# Altium footprint library 15_to_28_Pin.PcbLib: 44 footprints (part 2 of 3)
Each footprint in its own frame and in the unit in brackets; x right, y up, seen from the top. Pads: shape width x height; smd on the part's side, far side on the other; paste and mask are expansions set on the pad; w line width, h text height; cw(c..) or ccw(c..) is an arc to the next point about the centre after c.
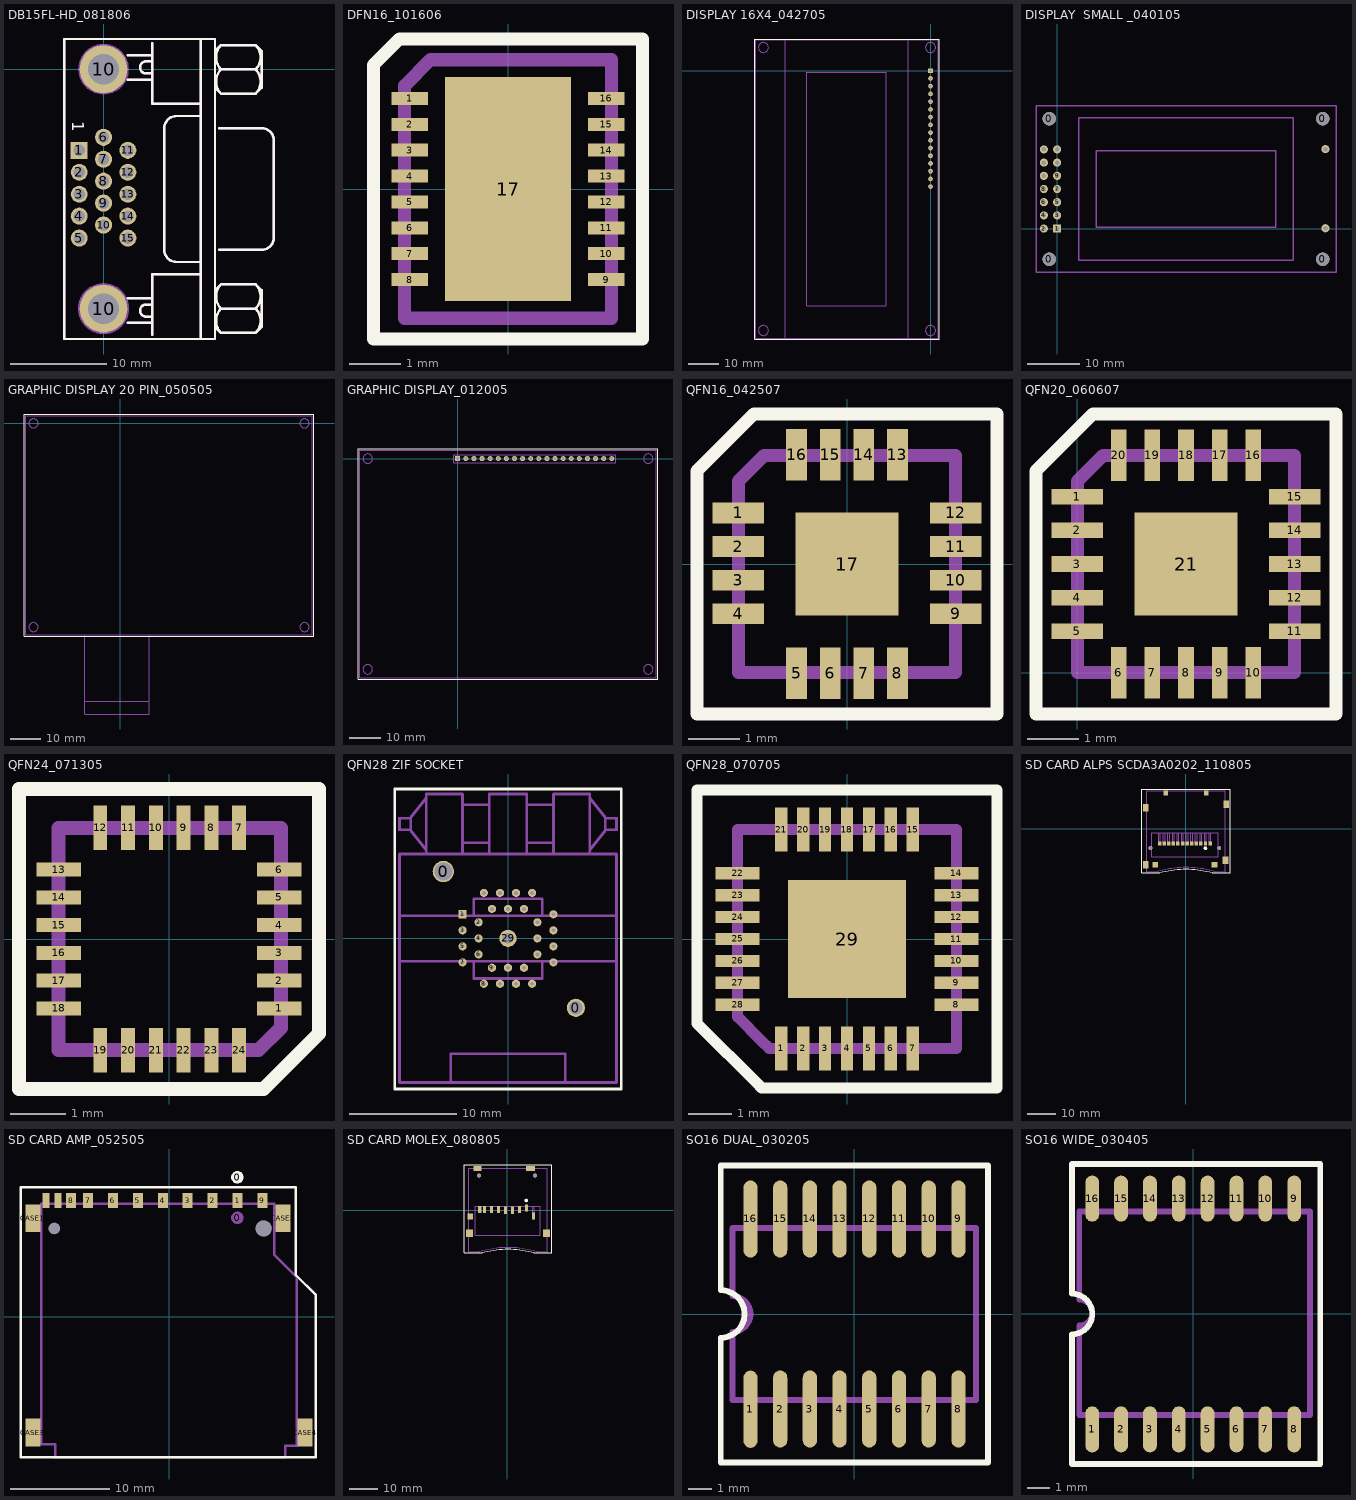
[diagram p1: the footprints below, top view; thin cyan lines are the x and y axes]

## DB15FL-HD_081806 [mil] "TH"
height 490
pads (17):
  rect 70x70 hole 47: 1(-100,-333.5)
  round 70 hole 47: 2(-100,-423.7) 3(-100,-513.9) 4(-100,-604.1) 5(-100,-694.3) 6(0,-280) 7(0,-370.2) 8(0,-460.4) 9(0,-550.6) 10(0,-640.8) 11(100,-333.5) 12(100,-423.7) 13(100,-513.9) 14(100,-604.1) 15(100,-694.3)
  round 196.67 hole 126: 10(0,-984.17) 10(0,0)
Top Overlay:
  lines w10: 100,-1042.5 200,-1042.5 ; 100,-942.5 200,-942.5 ; 100,-42.5 200,-42.5 ; 100,57.5 200,57.5 ; 200,-1092.5 200,-842.5 400,-842.5 ; 200,-1017.5 175,-1017.5 cw(c175,-992.5) 175,-967.5 200,-967.5 ; 200,-17.5 175,-17.5 cw(c175,7.5) 175,32.5 200,32.5 ; 200,107.5 200,-142.5 400,-142.5 ; 400,-1109.17 400,124.17 ; 400,-792.5 300,-792.5 cw(c300,-742.5) 250,-742.5 250,-242.5 cw(c300,-242.5) 300,-192.5 400,-192.5 ; 458.33,-1059.17 483.33,-1084.17 625,-1084.17 650,-1059.17 650,-909.17 625,-884.17 483.33,-884.17 458.33,-909.17 ; 458.33,-75.83 483.33,-100.83 625,-100.83 650,-75.83 650,74.17 625,99.17 483.33,99.17 458.33,74.17 ; 475,-742.5 650,-742.5 ccw(c650,-692.5) 700,-692.5 700,-292.5 ccw(c650,-292.5) 650,-242.5 475,-242.5 ; 483.25,-1084.25 cw(c533.33,-1034.17) 483.25,-984.08 ; 483.25,-984.25 cw(c533.33,-934.17) 483.25,-884.08 ; 483.25,-100.92 cw(c533.33,-50.83) 483.25,-0.75 ; 483.25,-0.92 cw(c533.33,49.17) 483.25,99.25 ; 483.33,-984.17 625,-984.17 ; 483.33,-0.83 625,-0.83 ; 625.09,-1084.25 ccw(c575,-1034.17) 625.09,-984.08 ; 625.09,-984.25 ccw(c575,-934.17) 625.09,-884.08 ; 625.09,-100.92 ccw(c575,-50.83) 625.09,-0.75 ; 625.09,-0.92 ccw(c575,49.17) 625.09,99.25 ; -161.67,-1109.17 -161.67,124.17 458.33,124.17 458.33,-1109.17 -161.67,-1109.17
  text "1" at -129.33,-214.57 h50
Assembly Outline:
  circle w10: c0,0 r99.15
  circle w10: c0,-984.17 r100.14
  lines w9.65: 458.33,124.17 -161.67,124.17 -161.67,-215.83 -161.67,-1109.17 ; -161.67,-1109.17 -161.67,-1109.17 ; -161.67,-1109.17 -161.67,-1109.17
  lines w10: -161.67,124.17 -161.67,-1109.17 148.33,-1109.17 458.33,-1109.17 458.33,124.17 -116.67,124.17 ; 100,-1042.5 200,-1042.5 ; 100,-942.5 200,-942.5 ; 100,-42.5 200,-42.5 ; 100,57.5 200,57.5 ; 200,-1092.5 200,-842.5 400,-842.5 ; 200,-1017.5 175,-1017.5 cw(c175,-992.5) 175,-967.5 200,-967.5 ; 200,-17.5 175,-17.5 cw(c175,7.5) 175,32.5 200,32.5 ; 200,107.5 200,-142.5 400,-142.5 ; 400,-1109.17 400,124.17 ; 400,-792.5 300,-792.5 cw(c300,-742.5) 250,-742.5 250,-242.5 cw(c300,-242.5) 300,-192.5 400,-192.5 ; 458.33,-1059.17 483.33,-1084.17 625,-1084.17 650,-1059.17 650,-909.17 625,-884.17 483.33,-884.17 458.33,-909.17 ; 458.33,-75.83 483.33,-100.83 625,-100.83 650,-75.83 650,74.17 625,99.17 483.33,99.17 458.33,74.17 ; 475,-742.5 650,-742.5 ccw(c650,-692.5) 700,-692.5 700,-292.5 ccw(c650,-292.5) 650,-242.5 475,-242.5 ; 483.25,-1084.25 cw(c533.33,-1034.17) 483.25,-984.08 ; 483.25,-984.25 cw(c533.33,-934.17) 483.25,-884.08 ; 483.25,-100.92 cw(c533.33,-50.83) 483.25,-0.75 ; 483.25,-0.92 cw(c533.33,49.17) 483.25,99.25 ; 483.33,-984.17 625,-984.17 ; 483.33,-0.83 625,-0.83 ; 625.09,-1084.25 ccw(c575,-1034.17) 625.09,-984.08 ; 625.09,-984.25 ccw(c575,-934.17) 625.09,-884.08 ; 625.09,-100.92 ccw(c575,-50.83) 625.09,-0.75 ; 625.09,-0.92 ccw(c575,49.17) 625.09,99.25
Assembly Designator:
  text ".Designator" at 343,-399.17 h40
Assembly Comment:
  text ".Comment" at 272,-245.17 h40

## DFN16_101606 [mm] "SM"
height 0.75
pads (17):
  rect 0.7x0.25 smd mask+0.038: 1(-1.9,1.75) 2(-1.9,1.25) 3(-1.9,0.75) 4(-1.9,0.25) 5(-1.9,-0.25) 6(-1.9,-0.75) 7(-1.9,-1.25) 8(-1.9,-1.75) 9(1.9,-1.75) 10(1.9,-1.25) 11(1.9,-0.75) 12(1.9,-0.25) 13(1.9,0.25) 14(1.9,0.75) 15(1.9,1.25) 16(1.9,1.75)
  rect 2.44x4.34 smd: 17(0,0)
Top Overlay:
  lines w0.254: -2.6,-2.9 0,-2.9 2.6,-2.9 2.6,0 2.6,2.9 0,2.9 -2.1,2.9 -2.6,2.4 -2.6,0 -2.6,-2.9
Assembly Outline:
  lines w0.254: -2,-2.5 -2,2 -1.5,2.5 2,2.5 2,0 2,-2.5 -2,-2.5
Assembly Designator:
  text ".Designator" at -0.8,-0.4 h1.02
Assembly Comment:
  text ".Comment" at -3,-4.2 h1.02

## DISPLAY 16X4_042705 [mil] "TH"
height 550
pads (16):
  rect 60x60 hole 30: 1(0,0)
  round 60 hole 30: 2(0,-100) 3(0,-200) 4(0,-300) 5(0,-400) 6(0,-500) 7(0,-600) 8(0,-700) 9(0,-800) 10(0,-900) 11(0,-1000) 12(0,-1100) 13(0,-1200) 14(0,-1300) 15(0,-1400) 16(0,-1500)
Top Overlay:
  lines w8: -2270,-3470 110,-3470 110,410 -2270,410 -2270,-3470
Assembly Outline:
  circle w10: c-2160,300 r65.19
  circle w10: c0,300 r65.19
  circle w10: c0,-3360 r65.19
  circle w10: c-2160,-3360 r65.19
  lines w8: -2260,-3360 -2260,-3460 ; -2160,400 -2260,400 ; -1880,-3460 -1880,400 -2260,400 ; -290,400 -290,-3460 100,-3460 ; 0,-3460 100,-3460 ; 100,300 100,400 ; -2260,-3460 100,-3460 ; -2260,-3460 -2260,400 ; -2260,400 100,400 ; 100,-3460 100,400 ; -1600,-3040 -570,-3040 -570,-20 -1600,-20 -1600,-3040

## DISPLAY  SMALL _040105 [mil] "DISPLAY TH"
height 530
pads (20):
  round 100 hole 100: 0(-60,-232.5) 0(-60,832.5) 0(2015,-232.5) 0(2015,832.5)
  rect 62x62 hole 35: 1(0,0)
  round 62 hole 35: 2(-100,0) 3(0,100) 4(-100,100) 5(0,200) 6(-100,200) 7(0,300) 8(-100,300) 9(0,400) 10(-100,400) 11(0,500) 12(-100,500) 13(0,600) 14(-100,600) 15(2035,602.5) 16(2035,2.5)
Assembly Outline:
  lines w10: -160,300 -160,932.5 ; -60,932.5 -160,932.5 ; 977.5,-332.5 -160,-332.5 ; 2115,7.5 2115,-332.5 ; 2115,597.5 2115,932.5 ; -160,-332.5 -160,592.5 -160,932.5 ; -160,-332.5 2115,-332.5 ; -160,932.5 2115,932.5 ; 2115,-332.5 2115,932.5 ; 162.5,-240 162.5,300 162.5,840 1792.5,840 1792.5,300 1792.5,-240 162.5,-240 ; 297.5,10 297.5,300 297.5,590 1657.5,590 1657.5,300 1657.5,10 297.5,10
Assembly Designator:
  text ".Designator" at 816,258.5 h40
Assembly Comment:
  text ".Comment" at 866,184.5 h40

## GRAPHIC DISPLAY 20 PIN_050505 [mil] "SMT"
height 375
Top Overlay:
  lines w10: -1230,-2720 2470,-2720 2470,120 -1155,120 -1230,120 -1230,-2720
Assembly Outline:
  circle w10: c2350,0 r58.66
  circle w10: c2350,-2600 r58.66
  circle w10: c-1110,-2600 r58.66
  circle w10: c-1110,0 r58.66
  lines w10: 370,-3550 -455,-3550 -455,-3710 ; 370,-2700 370,-3710 -455,-3710 ; -1210,100 -1210,-2505 -1210,-2700 -1110,-2700 ; -1210,100 -1110,100 ; -1210,100 -1110,100 ; -1110,-2700 -455,-2700 -455,-3710 ; -1110,-2700 2450,-2700 2450,-2600 2450,100 ; -1110,100 2350,100 ; -1110,100 2350,100 ; 2350,100 2450,100 ; 2350,100 2450,100

## GRAPHIC DISPLAY_012005 [mil] "TH"
pads (20):
  rect 62x62 hole 35: 1(0,0)
  round 62 hole 35: 2(100,0) 3(200,0) 4(300,0) 5(400,0) 6(500,0) 7(600,0) 8(700,0) 9(800,0) 10(900,0) 11(1000,0) 12(1100,0) 13(1200,0) 14(1300,0) 15(1400,0) 16(1500,0) 17(1600,0) 18(1700,0) 19(1800,0) 20(1900,0)
Top Overlay:
  lines w10: -1230,-2720 2470,-2720 2470,120 -1155,120 -1230,120 -1230,-2720
Assembly Outline:
  circle w10: c2350,0 r58.66
  circle w10: c2350,-2600 r58.66
  circle w10: c-1110,-2600 r58.66
  circle w10: c-1110,0 r58.66
  lines w8: -50,-50 -50,50 25,50 1950,50 1950,-50 -50,-50
  lines w10: -1210,100 -1210,-2505 -1210,-2700 -1110,-2700 2450,-2700 2450,-2600 2450,100 ; -1210,100 -1110,100 ; -1210,100 -1110,100 ; -1110,100 2350,100 ; -1110,100 2350,100 ; 2350,100 2450,100 ; 2350,100 2450,100
Assembly Designator:
  text ".Designator" at 845,-185 h40
Assembly Comment:
  text ".Comment" at 770,-125 h40

## QFN16_042507 [mm] "SMT"
pads (17):
  rect 1x0.4 smd mask+0.025: 1(-2.1,0.988) 2(-2.1,0.338) 3(-2.1,-0.312) 4(-2.1,-0.962) 9(2.1,-0.962) 10(2.1,-0.312) 11(2.1,0.338) 12(2.1,0.988)
  rect 0.4x1 smd mask+0.025: 5(-0.975,-2.112) 6(-0.325,-2.112) 7(0.325,-2.112) 8(0.975,-2.112) 13(0.975,2.113) 14(0.325,2.113) 15(-0.325,2.113) 16(-0.975,2.113)
  rect 2x2 smd: 17(0,0)
Top Overlay:
  lines w0.254: -2.9,-2.9 0,-2.9 2.9,-2.9 2.9,0 2.9,2.9 0,2.9 -1.8,2.9 -2.9,1.8 -2.9,0 -2.9,-2.9
Assembly Outline:
  lines w0.254: -2.1,-2.1 0,-2.1 2.1,-2.1 2.1,2.1 -1.6,2.1 -2.1,1.6 -2.1,-2.1
Assembly Designator:
  text ".Designator" at -0.95,-0.625 h1.02
Assembly Comment:
  text ".Comment" at -2,-4.225 h1.02

## QFN20_060607 [mm] "SMT"
pads (21):
  rect 1x0.3 smd mask+0.025: 1(0,3.4) 2(0,2.75) 3(0,2.1) 4(0,1.45) 5(0,0.8) 11(4.2,0.8) 12(4.2,1.45) 13(4.2,2.1) 14(4.2,2.75) 15(4.2,3.4)
  rect 0.3x1 smd mask+0.025: 6(0.8,0) 7(1.45,0) 8(2.1,0) 9(2.75,0) 10(3.4,0) 16(3.4,4.2) 17(2.75,4.2) 18(2.1,4.2) 19(1.45,4.2) 20(0.8,4.2)
  rect 2x2 smd: 21(2.1,2.1)
Top Overlay:
  lines w0.254: -0.8,-0.8 2.1,-0.8 5,-0.8 5,2.1 5,5 2.1,5 0.3,5 -0.8,3.9 -0.8,2.1 -0.8,-0.8
Assembly Outline:
  lines w0.203: 0,0 2.1,0
  lines w0.254: 0,0 2.1,0 4.2,0 4.2,4.2 0.5,4.2 0,3.7 0,0
Assembly Designator:
  text ".Designator" at 1.15,1.55 h1.02
Assembly Comment:
  text ".Comment" at -0.525,-2.125 h1.02

## QFN24_071305 [mm] "SMT"
height 0.75
pads (24):
  rect 0.8x0.25 smd mask+0.038: 1(1.988,-1.25) 2(1.988,-0.75) 3(1.988,-0.25) 4(1.988,0.25) 5(1.988,0.75) 6(1.988,1.25) 13(-1.987,1.25) 14(-1.987,0.75) 15(-1.987,0.25) 16(-1.987,-0.25) 17(-1.987,-0.75) 18(-1.987,-1.25)
  rect 0.25x0.8 smd mask+0.038: 7(1.263,2) 8(0.763,2) 9(0.263,2) 10(-0.237,2) 11(-0.737,2) 12(-1.237,2) 19(-1.237,-2) 20(-0.737,-2) 21(-0.237,-2) 22(0.263,-2) 23(0.763,-2) 24(1.263,-2)
Top Overlay:
  lines w0.254: 2.7,0 2.7,2.7 ; 2.7,2.7 -2.7,2.7 -2.7,-2.7 1.7,-2.7 2.7,-1.7 2.7,2.7
Assembly Outline:
  lines w0.254: 0.013,2 -1.987,2 ; -1.987,2 -1.987,-2 1.613,-2 2.013,-1.6 2.013,2 -1.987,2
Assembly Designator:
  text ".Designator" at -1.05,-0.425 h1.02
Assembly Comment:
  text ".Comment" at -2.7,-3.7 h1.02

## QFN28 ZIF SOCKET [mil] "TH"
height 20669.29
pads (31):
  round 78.74 hole 66.93: 0(-238.19,246.06)
  round 66.93 hole 49.21: 0(250,-255.91)
  rect 30x30 hole 14 mask+1.5: 1(-167.32,88.58)
  round 30 hole 14 mask+1.5: 2(-108.27,59.06) 3(-167.32,29.53) 4(-108.27,0) 5(-167.32,-29.53) 6(-108.27,-59.05) 7(-167.32,-88.58) 8(-88.58,-167.32) 9(-59.06,-108.27) 10(-29.53,-167.32) 11(0,-108.27) 12(29.53,-167.32) 13(59.06,-108.27) 14(88.58,-167.32) 15(167.32,-88.58) 16(108.27,-59.05) 17(167.32,-29.53) 18(108.27,0) 19(167.32,29.53) 20(108.27,59.06) 21(167.32,88.58) 22(88.58,167.32) 23(59.06,108.27) 24(29.53,167.32) 25(0,108.27) 26(-29.53,167.32) 27(-59.06,108.27) 28(-88.58,167.32)
  round 62.99 hole 39.37: 29(0,0)
Top Overlay:
  lines w10: -417.32,-555.12 0,-555.12 417.32,-555.12 417.32,0 417.32,550.2 -417.32,550.2 -417.32,0 -417.32,-555.12
Assembly Outline:
  lines w10: -360.24,399.61 -301.18,324.8 ; -358.27,442.91 -358.27,399.61 -399.61,399.61 -399.61,442.91 -360.24,442.91 -301.18,517.72 -301.18,531.5 ; -301.18,442.91 -301.18,421.26 -301.18,531.5 ; -210.63,-531.5 -210.63,-425.2 0,-425.2 210.63,-425.2 210.63,-531.5 ; -167.32,352.36 -68.9,352.36 ; -68.9,492.13 -167.32,492.13 -167.32,531.5 ; 68.9,352.36 167.32,352.36 ; 68.9,492.13 167.32,492.13 167.32,531.5 ; 301.18,324.8 360.24,399.61 ; 301.18,442.91 301.18,421.26 301.18,531.5 ; 358.27,442.91 358.27,399.61 399.61,399.61 399.61,442.91 360.24,442.91 301.18,517.72 301.18,531.5 ; -301.18,311.02 -301.18,531.5 ; -301.18,311.02 -167.32,311.02 ; -301.18,311.02 -399.61,311.02 -399.61,0 -399.61,-531.5 0,-531.5 399.61,-531.5 399.61,0 399.61,311.02 301.18,311.02 ; -301.18,531.5 -167.32,531.5 ; -167.32,311.02 -167.32,531.5 ; -167.32,311.02 167.32,311.02 ; -125.98,82.68 -125.98,145.67 0,145.67 125.98,145.67 125.98,82.68 ; -125.98,82.68 0,82.68 125.98,82.68 ; -125.98,82.68 -399.61,82.68 -399.61,-84.65 399.61,-84.65 399.61,82.68 125.98,82.68 ; 167.32,311.02 301.18,311.02 ; 167.32,311.02 167.32,531.5 ; 167.32,531.5 301.18,531.5 ; 301.18,311.02 301.18,531.5 ; -125.98,-147.64 -125.98,-84.65 0,-84.65 125.98,-84.65 125.98,-147.64 -125.98,-147.64 ; -68.9,311.02 -68.9,531.5 0,531.5 68.9,531.5 68.9,311.02 7.87,311.02 0,311.02 -7.87,311.02 -68.9,311.02
Assembly Designator:
  text ".Designator" at -34.45,-249.02 h40
Assembly Comment:
  text ".Comment" at -197.83,-318.9 h40

## QFN28_070705 [mm] "SMT"
height 0.889
pads (29):
  rect 0.28x1 smd mask+0.038: 1(-1.5,-2.5) 2(-1,-2.5) 3(-0.5,-2.5) 4(0,-2.5) 5(0.5,-2.5) 6(1,-2.5) 7(1.5,-2.5) 15(1.5,2.5) 16(1,2.5) 17(0.5,2.5) 18(0,2.5) 19(-0.5,2.5) 20(-1,2.5) 21(-1.5,2.5)
  rect 1x0.28 smd mask+0.038: 8(2.5,-1.5) 9(2.5,-1) 10(2.5,-0.5) 11(2.5,0) 12(2.5,0.5) 13(2.5,1) 14(2.5,1.5) 22(-2.5,1.5) 23(-2.5,1) 24(-2.5,0.5) 25(-2.5,0) 26(-2.5,-0.5) 27(-2.5,-1) 28(-2.5,-1.5)
  rect 2.7x2.7 smd paste-0.508 mask+0.038: 29(0,0)
Top Overlay:
  lines w0.254: -3.425,-1.925 -3.425,0 -3.425,3.4 -1.1,3.4 1.1,3.4 3.425,3.4 3.425,0 3.425,-3.4 1.1,-3.4 0,-3.4 -1.95,-3.4 -2,-3.35 -3.425,-1.925
Assembly Outline:
  lines w0.254: 0,2.5 -2.5,2.5 ; -2.5,2.5 2.5,2.5 2.5,-2.5 -1.775,-2.5 -1.95,-2.325 -2.5,-1.775 -2.5,2.5
Assembly Designator:
  text ".Designator" at -0.875,-0.35 h1.02
Assembly Comment:
  text ".Comment" at -2.6,-5 h1.02

## SD CARD ALPS SCDA3A0202_110805 [mm] "SMT"
height 2.9
pads (24):
  round 1.3 hole 1.3 unplated paste+0 mask+0.038: 0(-12.4,-6.7) 0(11.6,-6.7)
  round 1.27 on Top Overlay paste+0 mask+0.038: 0(6.775,-6.75)
  round 1.27 on Mech1 paste+0 mask+0.038: 0(6.775,-6.75)
  rect 1.2x1.4 smd paste+0 mask+0.038: 1(6.8,-5.1) 2(5.2,-5.1) 3(2,-5.1) 3(3.6,-5.1) 4(-1.2,-5.1) 4(0.4,-5.1) 5(-2.8,-5.1) 6(-4.4,-5.1) 7(-6,-5.1) 8(-7.6,-5.1) 9(8.4,-5.1) WP(-9.2,-5.1)
  rect 2x2 smd paste+0 mask+0.038: CASE1(-10.75,-12.5) CASE2(9.95,-12.5)
  rect 1.6x1.7 smd paste+0 mask+0.038: CASE3(7.05,12.5) CD(-7.05,12.5)
  rect 2x2.6 smd paste+0 mask+0.038: CASE4(-14,-12.5) CASE4(-14,7.3) CASE4(13.75,-10.95) CASE4(14,8.5)
Top Overlay:
  lines w0.254: -15.5,-15.372 -15.5,13.875 15.5,13.875 15.5,-15.372 15.225,-15.372 9.233,-15.372 ccw(c-0.45,-52.405) 0,-14.13 ccw(c0.45,-52.405) -9.233,-15.372 -15.5,-15.372
Assembly Outline:
  lines w0.254: -13.75,-12.7 -14.25,-12.7 -14.25,-12.2 -14.25,-11.7 -13.75,-11.7 ; -13.75,-12.2 -13.75,13.3 ; -13.75,-9.7 -13.75,13.3 ; -13.75,-5.8 -13.75,13.3 ; -13.75,-5.2 -13.75,13.3 ; -13.75,-1.4 -13.75,13.3 ; -13.75,6.95 -14.25,6.95 -14.25,7.45 -14.25,7.95 -13.75,7.95 ; -13.75,11.7 -13.75,13.3 ; -12,13.3 -13.75,13.3 ; -9.725,-1.4 -9.5,-1.4 -9.5,-5.1 -9.2,-5.1 -8.9,-5.1 -8.9,-1.4 ; -7.9,-1.4 -7.9,-5.1 -7.6,-5.1 -7.3,-5.1 -7.3,-1.4 ; -6.3,-1.4 -6.3,-5.1 -6,-5.1 -5.7,-5.1 -5.7,-1.4 ; -4.7,-1.4 -4.7,-5.1 -4.4,-5.1 -4.1,-5.1 -4.1,-1.4 ; -3.1,-1.4 -3.1,-5.1 -2.8,-5.1 -2.5,-5.1 -2.5,-1.4 ; -1.5,-1.4 -1.5,-5.1 -1.2,-5.1 -0.9,-5.1 -0.9,-1.4 ; 0.1,-1.4 0.1,-5.1 0.4,-5.1 0.7,-5.1 0.7,-1.4 ; 1.7,-1.4 1.7,-5.1 2,-5.1 2.3,-5.1 2.3,-1.4 ; 3.3,-1.4 3.3,-5.1 3.6,-5.1 3.9,-5.1 3.9,-1.4 ; 4.9,-1.4 4.9,-5.1 5.2,-5.1 5.5,-5.1 5.5,-1.4 ; 6.5,-1.4 6.5,-5.1 6.8,-5.1 7.1,-5.1 7.1,-1.4 ; 8.1,-1.4 8.1,-5.1 8.4,-5.1 8.7,-5.1 8.7,-1.4 ; 11.25,13.3 13.75,13.3 ; 13.75,-11.45 14.25,-11.45 14.25,-10.95 14.25,-10.45 13.75,-10.45 ; 13.75,-10.95 13.75,13.3 ; 13.75,8.3 14.25,8.3 14.25,8.8 14.25,9.3 13.75,9.3 ; 13.75,8.8 13.75,13.3 ; -13.75,13.3 -13.75,-4.4 -13.75,13.3 ; -13.75,13.3 -13.75,-14.9 -10.001,-14.9 cw(c0.425,-51.73) 0,-13.455 cw(c-0.425,-51.73) 10.001,-14.9 13.75,-14.9 13.75,13.3 ; -13.75,13.3 13.75,13.3 ; -12,-9.7 9.725,-9.7 11.25,-9.7 11.25,-3.5 11.25,-1.4 10.475,-1.4 -12,-1.4 -12,-9.7
Assembly Designator:
  text ".Designator" at -0.6,-0.15 h1.02
Assembly Comment:
  text ".Comment" at -0.55,1.325 h1.02

## SD CARD AMP_052505 [mm] "SMT"
height 3.175
pads (19):
  round 0.4 hole 1.143 unplated paste+0 mask+0.038: 0(-11.5,8.837)
  round 1.27 on Mech1 paste+0 mask+0.038: 0(6.858,9.906)
  round 1.27 on Top Overlay paste+0 mask+0.038: 0(6.858,13.97)
  round 0.4 hole 1.6 unplated paste+0 mask+0.038: 0(9.5,8.837)
  rect 1x1.5 smd paste+0 mask+0.038: 1(6.875,11.637) 2(4.375,11.637) 3(1.875,11.637) 4(-0.625,11.637) 5(-3.125,11.637) 6(-5.625,11.637) 7(-8.125,11.637) 8(-9.825,11.637) 9(9.375,11.637)
  rect 1.5x2.8 smd paste+0 mask+0.038: CASE1(-13.65,9.862) CASE2(11.45,9.862) CASE3(-13.65,-11.637) CASE4(13.65,-11.637)
  rect 0.7x1.5 smd paste+0 mask+0.038: CD(-11.125,11.637) WP(-12.325,11.637)
Top Overlay:
  lines w0.254: -14.859,-14.097 14.732,-14.097 14.732,2.159 12.7,4.191 12.7,12.954 -14.859,12.954 -14.859,-14.097
Assembly Outline:
  circle w0.254: c-11.506,8.839 r0.457
  circle w0.254: c9.5,8.839 r0.686
  rectangle: 9.144,11.303 9.652,12.065
  rectangle: 6.604,11.303 7.112,12.065
  rectangle: 4.115,11.303 4.623,12.065
  rectangle: 1.626,11.303 2.134,12.065
  rectangle: -0.864,11.303 -0.356,12.065
  rectangle: -3.378,11.303 -2.87,12.065
  rectangle: -5.867,11.303 -5.359,12.065
  rectangle: -8.382,11.303 -7.874,12.065
  rectangle: -10.084,11.303 -9.576,12.065
  rectangle: -11.379,11.303 -10.871,12.065
  rectangle: -12.573,11.303 -12.065,12.065
  lines w0.254: -12.827,-12.573 -13.843,-12.573 -13.843,-10.541 -12.827,-10.541 ; -12.827,8.89 -13.843,8.89 -13.843,10.922 -12.827,10.922 ; 10.541,8.89 11.557,8.89 11.557,10.922 10.541,10.922 ; 12.827,-12.573 13.843,-12.573 13.843,-10.541 12.827,-10.541 ; -12.827,-12.827 -11.43,-12.827 -11.43,-14.097 11.684,-14.097 11.684,-12.954 12.827,-12.954 12.827,3.937 10.541,6.223 10.541,11.303 -12.827,11.303 -12.827,-12.827
Assembly Designator:
  text ".Designator" at -2.032,-1.981 h1.02
Assembly Comment:
  text ".Comment" at -7.569,8.052 h1.02

## SD CARD MOLEX_080805 [mm] "SMT"
height 3.1
pads (18):
  round 1.36 hole 1.36 unplated paste+0 mask+0.038: 0(-10.025,12.375) 0(9.975,12.375)
  round 1.27 on Top Overlay paste+0 mask+0.038: 0(6.825,3.475)
  round 1.27 on Mech1 paste+0 mask+0.038: 0(6.825,3.475)
  rect 1.1x2.5 smd paste+0 mask+0.038: 1(6.85,0.8) 2(4.35,0.275) 3(1.85,0) 4(-0.65,0) 5(-3.15,0.275) 6(-5.65,0.275) 7(-8.15,0.275) 8(-9.775,0.275) 9(9.35,-2.125)
  rect 2.5x2.6 smd paste+0 mask+0.038: CASE1(-13.425,-8.225) CASE2(13.975,-8.225)
  rect 2.8x1.7 smd paste+0 mask+0.038: CASE3(-10.575,14.85)
  rect 3.3x1.7 smd paste+0 mask+0.038: CD(8.325,14.85)
  rect 1.95x2.3 smd paste+0 mask+0.038: WP(-13.15,-2.225)
Top Overlay:
  lines w0.254: -15.325,-15.218 -8.933,-15.218 cw(c0.75,-52.25) 0.3,-13.975 cw(c-0.15,-52.25) 9.533,-15.218 15.975,-15.218 15.975,16.3 14.775,16.3 0.325,16.3 -14.125,16.3 -15.325,16.3 -15.325,-15.218
Assembly Outline:
  lines w0.254: -13.7,-9.125 -14.225,-9.125 -14.225,-8.225 -14.225,-7.325 -13.7,-7.325 ; 0.3,15.05 14.3,15.05 ; 6.6,1.45 6.6,-0.125 ; 7.1,1.45 7.1,-0.125 ; 14.3,-9.125 14.775,-9.125 14.775,-8.225 14.775,-7.325 14.3,-7.325 ; -10.025,-0.65 -9.775,-0.65 ; -10.025,-0.65 -10.025,1.45 ; -10.025,-0.65 -10.025,1.45 ; -10.025,-0.65 -9.775,-0.65 ; -10.025,1.45 -9.525,1.45 ; -10.025,1.45 -9.525,1.45 ; -9.775,-0.65 -9.525,-0.65 ; -9.775,-0.65 -9.525,-0.65 ; -9.525,-0.65 -9.525,1.45 ; -9.525,-0.65 -9.525,1.45 ; 6.6,-0.125 6.85,-0.125 7.1,-0.125 ; 6.6,-0.125 7.1,-0.125 ; 14.3,15.05 14.3,-14.745 10.301,-14.745 ccw(c-0.125,-51.575) 0.3,-13.3 ccw(c0.725,-51.575) -9.701,-14.745 -13.7,-14.745 -13.7,1.45 -13.7,15.05 14.3,15.05 ; -11.4,-8.95 -11.4,1.45 11.8,1.45 11.8,-8.95 -11.4,-8.95 ; -8.4,-0.65 -8.4,1.45 -7.9,1.45 -7.9,-0.65 -8.15,-0.65 -8.4,-0.65 ; -5.9,-0.65 -5.9,1.45 -5.4,1.45 -5.4,-0.65 -5.65,-0.65 -5.9,-0.65 ; -3.4,-0.65 -3.4,1.45 -2.9,1.45 -2.9,-0.65 -3.15,-0.65 -3.4,-0.65 ; -0.9,-0.925 -0.9,1.175 -0.9,1.45 -0.4,1.45 -0.4,1.175 -0.4,-0.925 -0.65,-0.925 -0.9,-0.925 ; 1.6,-0.925 1.6,1.175 1.6,1.45 2.1,1.45 2.1,1.175 2.1,-0.925 1.85,-0.925 1.6,-0.925 ; 4.1,-0.65 4.1,1.45 4.6,1.45 4.6,-0.65 4.35,-0.65 4.1,-0.65 ; 9.1,-3.05 9.1,-0.95 9.1,1.45 9.6,1.45 9.6,-0.95 9.6,-3.05 9.35,-3.05 9.1,-3.05
Assembly Designator:
  text ".Designator" at -1.275,4.725 h1.02
Assembly Comment:
  text ".Comment" at -2.625,2.025 h1.02

## SO16 DUAL_030205 [mil] "SMT"
height 100
pads (16):
  oval 24x130 smd mask+1.5: 1(-175,-160.16) 2(-125,-159.84) 3(-75,-159.84) 4(-25,-159.84) 5(25,-159.84) 6(75,-159.84) 7(125,-159.84) 8(175,-159.84) 9(175,160.16) 10(125,160.16) 11(75,160.16) 12(25,160.16) 13(-25,160.16) 14(-75,160.16) 15(-125,160.16) 16(-175,160.16)
Top Overlay:
  lines w10: -225,-249.84 -225,-39.84 ccw(c-225,0.16) -225,40.16 -225,250.16 225,250.16 225,-249.84 -225,-249.84
Assembly Outline:
  lines w8: -175,-189.84 -175,-144.84 ; -175,145.16 -175,190.16 ; -125,-189.84 -125,-144.84 ; -125,145.16 -125,190.16 ; -75,-189.84 -75,-144.84 ; -75,145.16 -75,190.16 ; -25,-189.84 -25,-144.84 ; -25,145.16 -25,190.16 ; 25,-189.84 25,-144.84 ; 25,145.16 25,190.16 ; 75,-189.84 75,-144.84 ; 75,145.16 75,190.16 ; 125,-189.84 125,-144.84 ; 125,145.16 125,190.16 ; 175,-189.84 175,-144.84 ; 175,145.16 175,190.16
  lines w10: -205,-144.84 205,-144.84 205,145.16 -205,145.16 -205,30.16 cw(c-205,0.16) -205,-29.84 -205,-144.84
Assembly Designator:
  text ".Designator" at -64,-13 h40
Assembly Comment:
  text ".Comment" at -157.48,-68.9 h40

## SO16 WIDE_030405 [mil] "SMT"
height 100
pads (16):
  oval 24x80 smd mask+1.5: 1(-175,-200) 2(-125,-200) 3(-75,-200) 4(-25,-200) 5(25,-200) 6(75,-200) 7(125,-200) 8(175,-200) 9(175,200) 10(125,200) 11(75,200) 12(25,200) 13(-25,200) 14(-75,200) 15(-125,200) 16(-175,200)
Top Overlay:
  lines w10: -210,-260 -210,-140 -210,-35 ccw(c-210,0) -210,35 -210,260 220,260 220,-260 -210,-260
Assembly Outline:
  lines w10: -180,177.5 -180,205 -170,205 -170,177.5 ; -170,-175 -170,-202.5 -180,-202.5 -180,-175 ; -130,-175 -130,-202.5 -120,-202.5 -120,-175 ; -130,177.5 -130,205 -120,205 -120,177.5 ; -80,-175 -80,-202.5 -70,-202.5 -70,-175 ; -80,177.5 -80,205 -70,205 -70,177.5 ; -30,-175 -30,-202.5 -20,-202.5 -20,-175 ; -30,177.5 -30,205 -20,205 -20,177.5 ; 20,-175 20,-202.5 30,-202.5 30,-175 ; 20,177.5 20,205 30,205 30,177.5 ; 70,-175 70,-202.5 80,-202.5 80,-175 ; 70,177.5 70,205 80,205 80,177.5 ; 120,-175 120,-202.5 130,-202.5 130,-175 ; 120,177.5 120,205 130,205 130,177.5 ; 170,-175 170,-202.5 180,-202.5 180,-175 ; 170,177.5 170,205 180,205 180,177.5 ; -180,-175 202.5,-175 202.5,177.5 -197.5,177.5 -197.5,25 cw(c-197.5,2.5) -197.5,-20 -197.5,-117.5 -197.5,-175 -180,-175
Assembly Designator:
  text ".Designator" at -47,-15 h40
Assembly Comment:
  text ".Comment" at -166,-140 h40